# Altium footprint library LM358MX.PcbLib: 1 footprints
Each footprint in its own frame and in the unit in brackets; x right, y up, seen from the top. Pads: shape width x height; smd on the part's side, far side on the other; paste and mask are expansions set on the pad; w line width, h text height; cw(c..) or ccw(c..) is an arc to the next point about the centre after c.
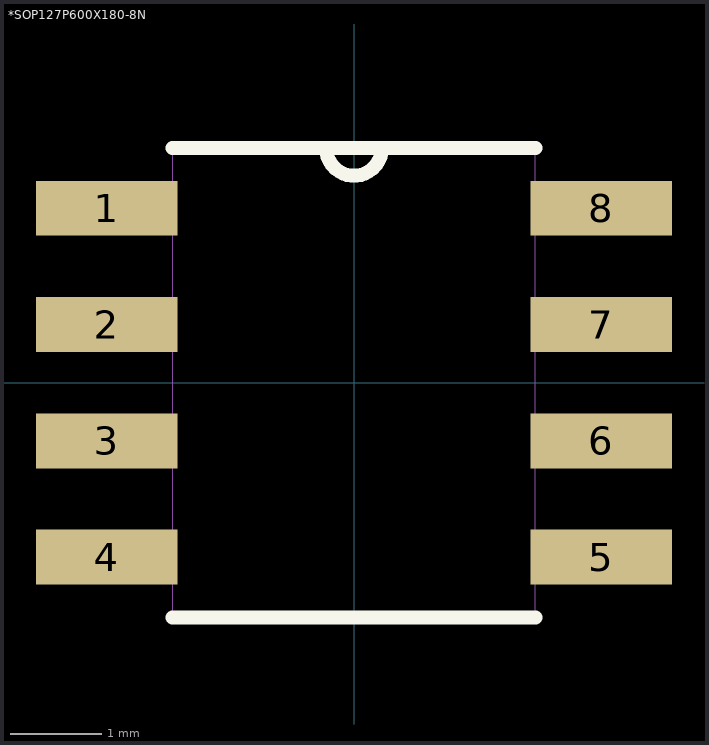
[diagram p0: the footprint, top view; thin cyan lines are the x and y axes]

## *SOP127P600X180-8N [mm]
pads (8):
  rect 1.55x0.6 smd: 1(-2.7,1.905) 2(-2.7,0.635) 3(-2.7,-0.635) 4(-2.7,-1.905) 5(2.7,-1.905) 6(2.7,-0.635) 7(2.7,0.635) 8(2.7,1.905)
Top Overlay:
  lines w0.152: -1.981,-2.565 1.981,-2.565 ; -1.981,2.565 -0.305,2.565 ; 1.981,2.565 0.305,2.565 ; -0.305,2.565 ccw(c0,2.565) 0.305,2.565 ; -0.305,2.565 0.305,2.565
Mechanical 13:
  lines w0: -3.15,-2.159 -3.15,-1.651 ; -3.15,-2.159 -1.981,-2.159 ; -3.15,-2.159 -3.15,-1.651 ; -3.15,-2.159 -1.981,-2.159 ; -3.15,-1.651 -1.981,-1.651 ; -3.15,-1.651 -1.981,-1.651 ; -3.15,-0.889 -3.15,-0.381 ; -3.15,-0.889 -1.981,-0.889 ; -3.15,-0.889 -3.15,-0.381 ; -3.15,-0.889 -1.981,-0.889 ; -3.15,-0.381 -1.981,-0.381 ; -3.15,-0.381 -1.981,-0.381 ; -3.15,0.381 -3.15,0.889 ; -3.15,0.381 -1.981,0.381 ; -3.15,0.381 -3.15,0.889 ; -3.15,0.381 -1.981,0.381 ; -3.15,0.889 -1.981,0.889 ; -3.15,0.889 -1.981,0.889 ; -3.15,1.651 -3.15,2.159 ; -3.15,1.651 -1.981,1.651 ; -3.15,1.651 -3.15,2.159 ; -3.15,1.651 -1.981,1.651 ; -3.15,2.159 -1.981,2.159 ; -3.15,2.159 -1.981,2.159 ; -1.981,-2.565 1.981,-2.565 ; -1.981,-2.565 -1.981,2.565 ; -1.981,-2.565 1.981,-2.565 ; -1.981,-2.565 -1.981,2.565 ; -1.981,-2.159 -1.981,-1.651 ; -1.981,-2.159 -1.981,-1.651 ; -1.981,-0.889 -1.981,-0.381 ; -1.981,-0.889 -1.981,-0.381 ; -1.981,0.381 -1.981,0.889 ; -1.981,0.381 -1.981,0.889 ; -1.981,1.651 -1.981,2.159 ; -1.981,1.651 -1.981,2.159 ; -1.981,2.565 -0.305,2.565 ; -1.981,2.565 -0.305,2.565 ; -0.305,2.565 ccw(c0,2.565) 0.305,2.565 ; -0.305,2.565 ccw(c0,2.565) 0.305,2.565 ; -0.305,2.565 0.305,2.565 ; -0.305,2.565 0.305,2.565 ; 0.305,2.565 1.981,2.565 ; 0.305,2.565 1.981,2.565 ; 1.981,-2.565 1.981,2.565 ; 1.981,-2.565 1.981,2.565 ; 1.981,-2.159 1.981,-1.651 ; 1.981,-2.159 3.15,-2.159 ; 1.981,-2.159 1.981,-1.651 ; 1.981,-2.159 3.15,-2.159 ; 1.981,-1.651 3.15,-1.651 ; 1.981,-1.651 3.15,-1.651 ; 1.981,-0.889 1.981,-0.381 ; 1.981,-0.889 3.15,-0.889 ; 1.981,-0.889 1.981,-0.381 ; 1.981,-0.889 3.15,-0.889 ; 1.981,-0.381 3.15,-0.381 ; 1.981,-0.381 3.15,-0.381 ; 1.981,0.381 1.981,0.889 ; 1.981,0.381 3.15,0.381 ; 1.981,0.381 1.981,0.889 ; 1.981,0.381 3.15,0.381 ; 1.981,0.889 3.15,0.889 ; 1.981,0.889 3.15,0.889 ; 1.981,1.651 1.981,2.159 ; 1.981,1.651 3.15,1.651 ; 1.981,1.651 1.981,2.159 ; 1.981,1.651 3.15,1.651 ; 1.981,2.159 3.15,2.159 ; 1.981,2.159 3.15,2.159 ; 3.15,-2.159 3.15,-1.651 ; 3.15,-2.159 3.15,-1.651 ; 3.15,-0.889 3.15,-0.381 ; 3.15,-0.889 3.15,-0.381 ; 3.15,0.381 3.15,0.889 ; 3.15,0.381 3.15,0.889 ; 3.15,1.651 3.15,2.159 ; 3.15,1.651 3.15,2.159